# EAGLE library part 7508111518 (library WE-OLLT)
WE-OLLT Offline Flyback Transformers Characteristics Flyback topology Designs for Universal, US and European input voltages Low leakage inductance Isolation voltage up to 4500VAC Operating temperature: –40 °C to +125 °C Most products meet reinforced insulation Applications Offline Applications High DC VIN Isolated Applications Offline Bus Converter (12V, 24V or 48V Outputs) Industrial power supplies Medical power supplies Auxiliary power supply Home appliances Consumer electronics <https://www.we-online.com/components/media/o784499v209%20FAMILY-MID-OLLT-mixed.jpg> Details see: www.we-online.com/en/components/products/WE-OLLT <www.we-online.com/catalog/WE-OLLT/?utm_source=eagle_model&utm_medium=description_link&utm_campaign=eisos_eagle> Created by Ella Wu 2024-07-03 2024 (C) Wurth Elektronik
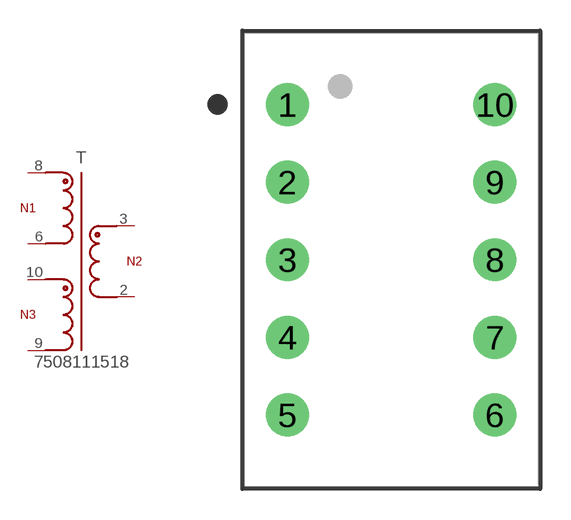
[diagram p1: symbol with the pads of WE-OLLT_EE20/10/6_L22.25W14.4H23.24; footprint WE-OLLT_EE20/10/6_L22.25W14.4H23.24]

Designator prefix T

## 7508111518 (DATASHEET-URL: https://www.we-online.com/redexpert/spec/7508111518?ae; FSWITCH: 50kHz; HEIGHT: 23.24mm; IOUT1: 300A; ISAT: 490V; L: 2.4uH; LENGTH: 22.25mm; MOUNT: THT; N: 2.5:1:0.25; PART-NUMBER: 7508111518; SIZE: EE20/10/6; VALUE: 7508111518; VAUX: 12V; VIN: 100 - 269 V (AC); VOUT1: 48V; VT: 4000V(AC); WIDTH: 14.4mm)  [WE-OLLT_EE20/10/6_L22.25W14.4H23.24]
2  2  pas
3  3  pas
6  6  pas
8  8  pas
9  9  pas
10  10  pas

## Footprint WE-OLLT_EE20/10/6_L22.25W14.4H23.24 (pad centres in mm)
WE-OLLT Offline Flyback Transformers Size:EE20/10/6,THT,10pins LXWXH=22.25X14.4X23.24mm
drill 1.4: 1 -5.08,7.6; 2 -5.08,3.8; 3 -5.08,0; 4 -5.08,-3.8; 5 -5.08,-7.6; 6 5.08,-7.6; 7 5.08,-3.8; 8 5.08,0; 9 5.08,3.8; 10 5.08,7.6